# Altium footprint library Connector_ScrewTerminal.PcbLib: 6 footprints
Each footprint in its own frame and in the unit in brackets; x right, y up, seen from the top. Pads: shape width x height; smd on the part's side, far side on the other; paste and mask are expansions set on the pad; w line width, h text height; cw(c..) or ccw(c..) is an arc to the next point about the centre after c.
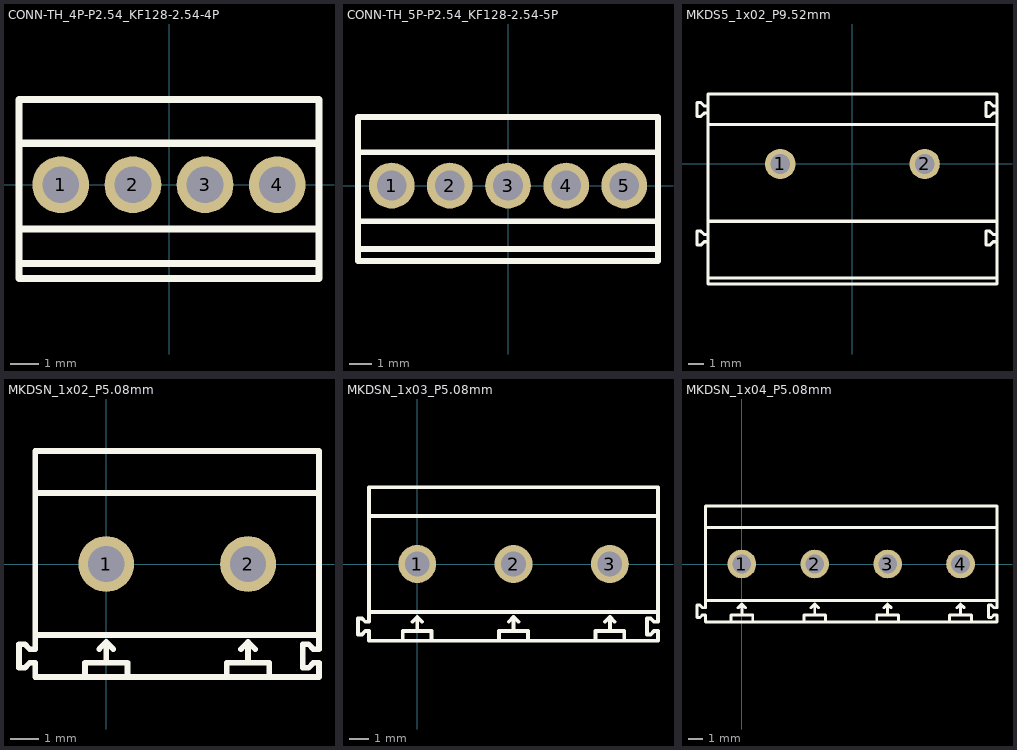
[diagram p0: the footprints below, top view; thin cyan lines are the x and y axes]

## CONN-TH_4P-P2.54_KF128-2.54-4P [mm]
pads (4):
  round 2 hole 1.3: 1(-3.81,0) 2(-1.27,0) 3(1.27,0) 4(3.81,0)
Top Overlay:
  lines w0.254: -5.28,-2.77 5.28,-2.77 ; -5.28,-1.562 5.28,-1.562 ; -5.28,1.458 5.28,1.458 ; -5.28,-3.3 -5.28,3 5.28,3 5.28,-3.3 -5.28,-3.3
3D body "CONN-TH_4P-P2.54_KF128-2.54-4P.stp": height 8.9, standoff -3.4, extent -5.08,-3.15 5.08,3.15

## CONN-TH_5P-P2.54_KF128-2.54-5P [mm]
pads (5):
  round 2 hole 1.3: 1(-5.08,0) 2(-2.54,0) 3(0,0) 4(2.54,0) 5(5.08,0)
Top Overlay:
  lines w0.254: -6.55,-2.77 6.55,-2.77 ; -6.55,-1.562 6.55,-1.562 ; -6.55,1.458 6.55,1.458 ; -6.55,-3.3 6.55,-3.3 6.55,3 -6.55,3 -6.55,-3.3
3D body "U2.stp": height 8.8, standoff -3.5, extent -6.35,-3.3 6.35,3

## MKDS5_1x02_P9.52mm [mm]
pads (2):
  round 2 hole 1.3: 1(-4.76,0) 2(4.76,0)
Top Overlay:
  lines w0.203: -10.245,-4.9 -10.245,-5.35 -9.995,-5.35 -9.77,-5.125 -9.52,-5.125 ; -10.245,-4.875 -10.245,-4.425 -9.995,-4.425 -9.77,-4.65 -9.52,-4.65 ; -10.245,3.575 -10.245,3.125 -9.995,3.125 -9.77,3.35 -9.52,3.35 ; -10.245,3.6 -10.245,4.05 -9.995,4.05 -9.77,3.825 -9.52,3.825 ; -9.52,-7.525 9.52,-7.525 ; -9.52,-3.775 9.52,-3.775 ; -9.52,2.6 9.52,2.6 ; 8.795,-4.9 8.795,-5.35 9.045,-5.35 9.27,-5.125 9.52,-5.125 ; 8.795,-4.875 8.795,-4.425 9.045,-4.425 9.27,-4.65 9.52,-4.65 ; 8.795,3.575 8.795,3.125 9.045,3.125 9.27,3.35 9.52,3.35 ; 8.795,3.6 8.795,4.05 9.045,4.05 9.27,3.825 9.52,3.825 ; 9.52,-7.9 9.52,4.6 ; 9.525,-7.9 -9.52,-7.9 -9.52,4.6 9.525,4.6
3D body "1714971.stp": height 21.5, standoff -5, extent -10.09,-7.901 9.52,4.599

## MKDSN_1x02_P5.08mm [mm]
pads (2):
  round 2 hole 1.3: 1(0,0) 2(5.08,0)
Top Overlay:
  lines w0.203: -2.54,2.54 7.62,2.54 ; -0.762,-4.05 -0.762,-3.542 0.762,-3.542 0.762,-4.05 ; -0.254,-3.048 0,-2.794 ; 0,-3.542 0,-2.794 ; 0.254,-3.048 0,-2.794 ; 4.318,-4.05 4.318,-3.542 5.842,-3.542 5.842,-4.05 ; 4.826,-3.048 5.08,-2.794 ; 5.08,-3.542 5.08,-2.794 ; 5.334,-3.048 5.08,-2.794 ; -2.54,-2.54 -2.54,-3.048 -2.743,-3.048 -2.921,-2.87 -3.124,-2.87 -3.124,-3.72 -2.921,-3.72 -2.743,-3.542 -2.54,-3.542 -2.54,-4.05 7.62,-4.05 7.62,-3.542 7.417,-3.542 7.239,-3.72 7.036,-3.72 7.036,-2.87 7.239,-2.87 7.417,-3.048 7.62,-3.048 7.62,-2.54 ; -2.54,-2.54 7.62,-2.54 ; -2.54,-2.54 -2.54,4.05 7.62,4.05 7.62,-2.54
3D body "1729128.stp": height 10, standoff -3.5, extent -3.11,-4.036 7.62,4.064

## MKDSN_1x03_P5.08mm [mm]
pads (3):
  round 2 hole 1.3: 1(0,0) 2(5.08,0) 3(10.16,0)
Top Overlay:
  lines w0.203: -2.54,2.54 12.7,2.54 ; -0.762,-4.05 -0.762,-3.542 0.762,-3.542 0.762,-4.05 ; -0.254,-3.048 0,-2.794 ; 0,-3.542 0,-2.794 ; 0.254,-3.048 0,-2.794 ; 4.318,-4.05 4.318,-3.542 5.842,-3.542 5.842,-4.05 ; 4.826,-3.048 5.08,-2.794 ; 5.08,-3.542 5.08,-2.794 ; 5.334,-3.048 5.08,-2.794 ; 9.398,-4.05 9.398,-3.542 10.922,-3.542 10.922,-4.05 ; 9.906,-3.048 10.16,-2.794 ; 10.16,-3.542 10.16,-2.794 ; 10.414,-3.048 10.16,-2.794 ; -2.54,-2.54 -2.54,-3.048 -2.743,-3.048 -2.921,-2.87 -3.124,-2.87 -3.124,-3.72 -2.921,-3.72 -2.743,-3.542 -2.54,-3.542 -2.54,-4.05 12.7,-4.05 12.7,-3.542 12.497,-3.542 12.319,-3.72 12.116,-3.72 12.116,-2.87 12.319,-2.87 12.497,-3.048 12.7,-3.048 12.7,-2.54 ; -2.54,-2.54 12.7,-2.54 ; -2.54,-2.54 -2.54,4.05 12.7,4.05 12.7,-2.54
3D body "1729131.stp": height 10.1, standoff -3.4, extent -3.11,-4.05 12.7,4.05

## MKDSN_1x04_P5.08mm [mm]
pads (4):
  round 2 hole 1.3: 1(0,0) 2(5.08,0) 3(10.16,0) 4(15.24,0)
Top Overlay:
  lines w0.203: -2.54,2.54 17.78,2.54 ; -0.762,-4.05 -0.762,-3.542 0.762,-3.542 0.762,-4.05 ; -0.254,-3.048 0,-2.794 ; 0,-3.542 0,-2.794 ; 0.254,-3.048 0,-2.794 ; 4.318,-4.05 4.318,-3.542 5.842,-3.542 5.842,-4.05 ; 4.826,-3.048 5.08,-2.794 ; 5.08,-3.542 5.08,-2.794 ; 5.334,-3.048 5.08,-2.794 ; 9.398,-4.05 9.398,-3.542 10.922,-3.542 10.922,-4.05 ; 9.906,-3.048 10.16,-2.794 ; 10.16,-3.542 10.16,-2.794 ; 10.414,-3.048 10.16,-2.794 ; 14.478,-4.05 14.478,-3.542 16.002,-3.542 16.002,-4.05 ; 14.986,-3.048 15.24,-2.794 ; 15.24,-3.542 15.24,-2.794 ; 15.494,-3.048 15.24,-2.794 ; -2.54,-2.54 -2.54,-3.048 -2.743,-3.048 -2.921,-2.87 -3.124,-2.87 -3.124,-3.72 -2.921,-3.72 -2.743,-3.542 -2.54,-3.542 -2.54,-4.05 17.78,-4.05 17.78,-3.542 17.577,-3.542 17.399,-3.72 17.196,-3.72 17.196,-2.87 17.399,-2.87 17.577,-3.048 17.78,-3.048 17.78,-2.54 ; -2.54,-2.54 17.78,-2.54 ; -2.54,-2.54 -2.54,4.05 17.78,4.05 17.78,-2.54
3D body "1729144.stp": height 10.1, standoff -3.4, extent -3.11,-4.036 17.78,4.064